# EAGLE library part GS2974 (library gennum)
Adaptive Cable Equalizer Source: http://www.gennum.com/video/pdf/37184DOC.pdf
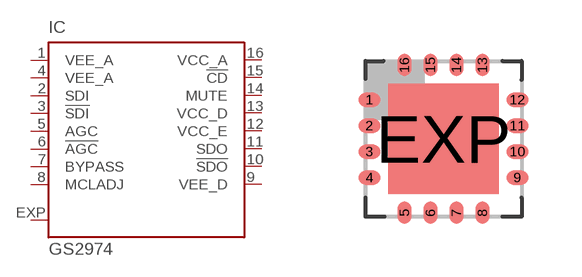
[diagram p1: symbol with the pads of QFN16-4X4; footprint QFN16-4X4]

Designator prefix IC

## GS2974 (MPN: GS2974ACNE3; OC_FARNELL: 1603763; OC_NEWARK: 12N2242)  [QFN16-4X4]
1  VEE_A  pwr
2  SDI  in
3  !SDI  in
4  VEE_A  pwr
5  AGC  pas
6  !AGC  pas
7  BYPASS  in
8  MCLADJ  in
9  VEE_D  pwr
10  !SDO  out
11  SDO  out
12  VCC_E  pwr
13  VCC_D  pwr
14  MUTE  in
15  !CD  out
16  VCC_A  pwr
EXP  EXP  pwr

## Footprint QFN16-4X4 (pad centres in mm)
QFN-16 4x4 mm Source: http://www.gennum.com/video/pdf/37184DOC.pdf
smd 0.55 x 0.35: 1 -1.85,0.975; 2 -1.85,0.325; 3 -1.85,-0.325; 4 -1.85,-0.975; 9 1.85,-0.975; 10 1.85,-0.325; 11 1.85,0.325; 12 1.85,0.975
smd 0.35 x 0.55: 5 -0.975,-1.85; 6 -0.325,-1.85; 7 0.325,-1.85; 8 0.975,-1.85; 13 0.975,1.85; 14 0.325,1.85; 15 -0.325,1.85; 16 -0.975,1.85
smd 2.76 x 2.76: EXP 0,0